# Altium schematic symbol library LM393D.SchLib: 1 symbol
Pins are listed as number, name and electrical type; pins without a type are passive.

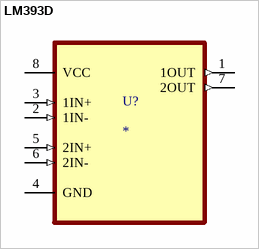
[diagram p0: symbol LM393D]

## LM393D
designator U?
Comparator General Purpose CMOS, DTL, ECL, MOS, Open-Collector, TTL 8-SOIC; MF: STMicroelectronics; MP: LM393D; SnapEDA_Link: https://www.snapeda.com/parts/LM393D/STMicroelectronics/view-part/?ref=snap; Package: SOIC-8 STMicroelectronics; Value: *; Check_prices: https://www.snapeda.com/parts/LM393D/STMicroelectronics/view-part/?ref=eda
footprint SOIC127P600X175-8N
pins: 1 1OUT (out), 2 1IN- (in), 3 1IN+ (in), 4 GND, 5 2IN+ (in), 6 2IN- (in), 7 2OUT (out), 8 VCC (power)